# Altium schematic symbol library LED.SchLib: 6 symbols
Pins are listed as number, name and electrical type; pins without a type are passive.

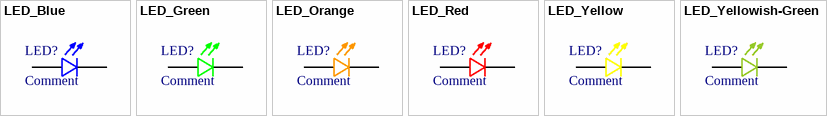
[diagram p0: symbols LED_Blue to LED_Yellowish-Green]

## LED_Blue
designator LED?, comment Comment
pins: A "Anode", C "Cathode"

## LED_Green
designator LED?, comment Comment
pins: A "Anode", C "Cathode"

## LED_Orange
designator LED?, comment Comment
pins: A "Anode", C "Cathode"

## LED_Red
designator LED?, comment Comment
pins: A "Anode", C "Cathode"

## LED_Yellow
designator LED?, comment Comment
pins: A "Anode", C "Cathode"

## LED_Yellowish-Green
designator LED?, comment Comment
pins: A "Anode", C "Cathode"